# EAGLE library part ARD (library ArdDisp)
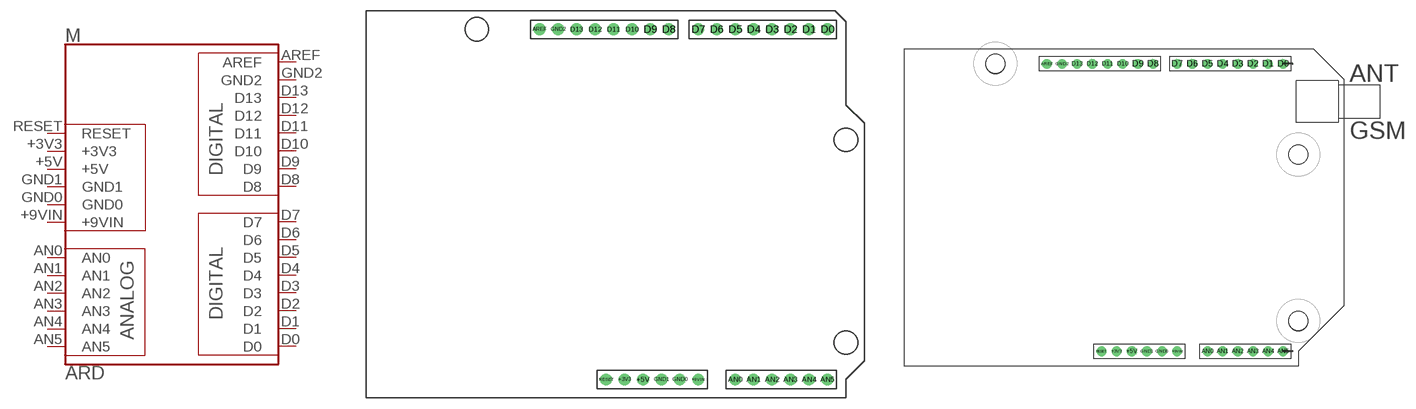
[diagram p6: symbol with the pads of ARDSHIELD; footprints ARDSHIELD, ARDGSM]

Designator prefix M

## ARD-SHIELD  [ARDSHIELD]
+3V3  +3V3  out
+5V  +5V  in
+9VIN  +9VIN  in
AN0  AN0
AN1  AN1
AN2  AN2
AN3  AN3
AN4  AN4
AN5  AN5
AREF  AREF
D0  D0
D1  D1
D2  D2
D3  D3
D4  D4
D5  D5
D6  D6
D7  D7
D8  D8
D9  D9
D10  D10
D11  D11
D12  D12
D13  D13
GND0  GND0  in
GND1  GND1  in
GND2  GND2
RESET  RESET  in

## ARD-GSM  [ARDGSM]
Pads as for ARDSHIELD

## Footprint ARDSHIELD (pad centres in mm)
drill 1 pad 1.626: +3V3 35.56,2.54; +5V 38.1,2.54; +9VIN 45.72,2.54; AN0 50.8,2.54; AN1 53.34,2.54; AN2 55.88,2.54; AN3 58.42,2.54; AN4 60.96,2.54; AN5 63.5,2.54; AREF 23.876,50.8; D0 63.5,50.8; D1 60.96,50.8; D2 58.42,50.8; D3 55.88,50.8; D4 53.34,50.8; D5 50.8,50.8; D6 48.26,50.8; D7 45.72,50.8; D8 41.656,50.8; D9 39.116,50.8; D10 36.576,50.8; D11 34.036,50.8; D12 31.496,50.8; D13 28.956,50.8; GND0 43.18,2.54; GND1 40.64,2.54; GND2 26.416,50.8; RESET 33.02,2.54
hole 3.2 at 15.24,50.8
hole 3.2 at 66.04,7.62
hole 3.2 at 66.04,35.56

## Footprint ARDGSM (pad centres in mm)
drill 1 pad 1.626: +3V3 35.56,2.54; +5V 38.1,2.54; +9VIN 45.72,2.54; AN0 50.8,2.54; AN1 53.34,2.54; AN2 55.88,2.54; AN3 58.42,2.54; AN4 60.96,2.54; AN5 63.5,2.54; AREF 23.876,50.8; D0 63.5,50.8; D1 60.96,50.8; D2 58.42,50.8; D3 55.88,50.8; D4 53.34,50.8; D5 50.8,50.8; D6 48.26,50.8; D7 45.72,50.8; D8 41.656,50.8; D9 39.116,50.8; D10 36.576,50.8; D11 34.036,50.8; D12 31.496,50.8; D13 28.956,50.8; GND0 43.18,2.54; GND1 40.64,2.54; GND2 26.416,50.8; RESET 33.02,2.54
hole 3.2 at 15.24,50.8
hole 3.2 at 66.04,7.62
hole 3.2 at 66.04,35.56